# Altium schematic symbol library BrauV2_Inductor.SchLib: 2 symbols
Pins are listed as number, name and electrical type; pins without a type are passive.

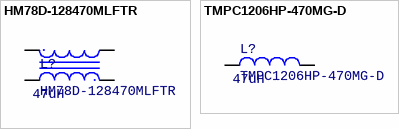
[diagram p0: symbols HM78D-128470MLFTR to TMPC1206HP-470MG-D]

## HM78D-128470MLFTR
designator L?  Parallel Inductance: 47uH
Coupled Inductors 47uH 20%; Current Max: 5.2A; DC Resistance: 90mR; Size: 12.5x12.5x8.05mm
footprint HM78D-128470MLFTR
pins: 1, 2, 3, 4

## TMPC1206HP-470MG-D
designator L?  Inductance: 47uH
47uH ±20% 5.5A 80mΩ SMD,13.5x12.5x5.7mm Power Inductors RoHS; Saturation Current: 7A; DC Resistance: 80mR; Current Max: 5.5A; Size: 13.5x12.5x5.7mm
footprint TMPC1206HP-470MG-D (47uH ±20% 5.5A 80mO SMD,13.5x12.5x5.7mm Power Inductors RoHS)
pins: 1, 2